# Altium schematic symbol library Devices_Kuharchuk.SchLib: 4 symbols
Pins are listed as number, name and electrical type; pins without a type are passive.

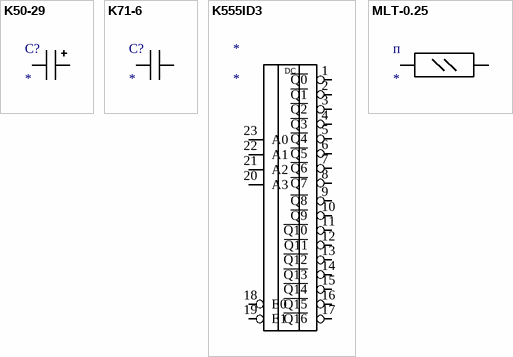
[diagram p0: symbols K50-29 to MLT-0.25]

## K50-29
designator C?
pins: 1, 2

## K71-6
designator С?
pins: 1, 2

## K555ID3
designator *
pins: 1 ~{Q0}, 2 ~{Q1}, 3 ~{Q2}, 4 ~{Q3}, 5 ~{Q4}, 6 ~{Q5}, 7 ~{Q6}, 8 ~{Q7}, 9 ~{Q8}, 10 ~{Q9}, 11 ~{Q10}, 12 ~{Q11}, 13 ~{Q12}, 14 ~{Q13}, 15 ~{Q14}, 16 ~{Q15}, 17 ~{Q16}, 18 E0, 19 E1, 20 A3, 21 A2, 22 A1, 23 A0
text: DC

## MLT-0.25
designator п
pins: 1 3, 2